# EAGLE library part 1X9 (library headers.edge(.1in))
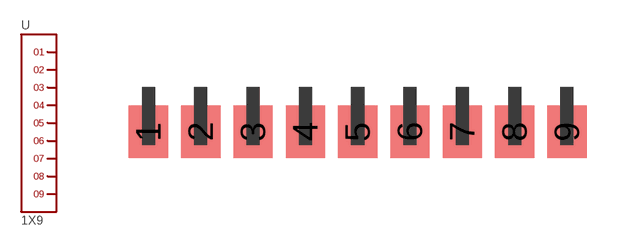
[diagram p3: symbol with the pads of 1X9; footprint 1X9]

Designator prefix -

## 1X9  [1X9]
1  1
2  2
3  3
4  4
5  5
6  6
7  7
8  8
9  9

## Footprint 1X9 (pad centres in mm)
smd 1.905 x 2.54: 1 0,-2.159; 2 2.54,-2.159; 3 5.08,-2.159; 4 7.62,-2.159; 5 10.16,-2.159; 6 12.7,-2.159; 7 15.24,-2.159; 8 17.78,-2.159; 9 20.32,-2.159